# EAGLE library part STALKER_V3_1 (library TepmachchaMk2)
Stalker V3.1 device
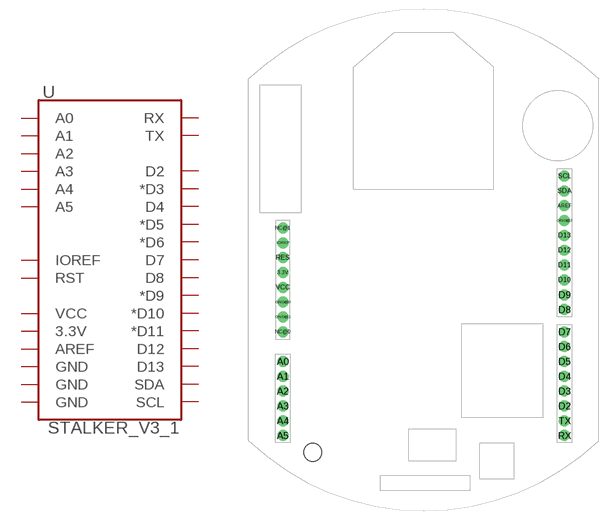
[diagram p0: symbol with the pads of STALKER_V3_1_PACKAGE; footprint STALKER_V3_1_PACKAGE]

Designator prefix -

## STALKER_V3_1ONE  [STALKER_V3_1_PACKAGE]
3.3V  3.3V
A0  A0
A1  A1
A2  A2
A3  A3
A4  A4
A5  A5
AREF  AREF
D2  D2
D3  *D3
D4  D4
D5  *D5
D6  *D6
D7  D7
D8  D8
D9  *D9
D10  *D10
D11  *D11
D12  D12
D13  D13
GND@0  GND  pwr
GND@1  GND  pwr
GND@2  GND  pwr
IOREF  IOREF
RES  RST
RX  RX
SCL  SCL
SDA  SDA
TX  TX
VCC  VCC  pwr

## Footprint STALKER_V3_1_PACKAGE (pad centres in mm)
Seeeduino Stalker V3.1 compatible footprint No ICSP connections, no silk labels. Component outlines on tDocu 51 only Specifications: Pin count: 32 Pin pitch: 0.1" Area: Example device(s): Seeeduino Stalker V3.1
drill 1.016 pad 1.88: 3.3V -24.13,3.81; A0 -24.13,-11.43; A1 -24.13,-13.97; A2 -24.13,-16.51; A3 -24.13,-19.05; A4 -24.13,-21.59; A5 -24.13,-24.13; AREF 24.13,15.24; D2 24.13,-19.05; D3 24.13,-16.51; D4 24.13,-13.97; D5 24.13,-11.43; D6 24.13,-8.89; D7 24.13,-6.35; D8 24.13,-2.54; D9 24.13,0; D10 24.13,2.54; D11 24.13,5.08; D12 24.13,7.62; D13 24.13,10.16; GND@0 -24.13,-1.27; GND@1 -24.13,-3.81; GND@2 24.13,12.7; IOREF -24.13,8.89; NC@0 -24.13,-6.35; NC@1 -24.13,11.43; RES -24.13,6.35; RX 24.13,-24.13; SCL 24.13,20.32; SDA 24.13,17.78; TX 24.13,-21.59; VCC -24.13,1.27
hole 3 at -19,-27